# Altium schematic symbol library ATMEL ATWINC1500-MR210PB.SchLib: 1 symbol
Pins are listed as number, name and electrical type; pins without a type are passive.

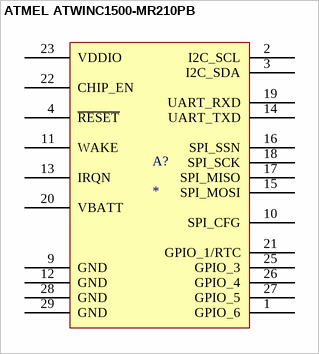
[diagram p0: symbol ATMEL ATWINC1500-MR210PB]

## ATMEL ATWINC1500-MR210PB
designator A?
pins: 1 GPIO_6, 2 I2C_SCL, 3 I2C_SDA, 4 ~{RESET}, 9 GND, 10 SPI_CFG, 11 WAKE, 12 GND, 13 IRQN, 14 UART_TXD, 15 SPI_MOSI, 16 SPI_SSN, 17 SPI_MISO, 18 SPI_SCK, 19 UART_RXD, 20 VBATT, 21 GPIO_1/RTC, 22 CHIP_EN, 23 VDDIO, 25 GPIO_3, 26 GPIO_4, 27 GPIO_5, 28 GND, 29 GND